# Altium footprint library Mechanical.PcbLib: 35 footprints (part 1 of 3)
Each footprint in its own frame and in the unit in brackets; x right, y up, seen from the top. Pads: shape width x height; smd on the part's side, far side on the other; paste and mask are expansions set on the pad; w line width, h text height; cw(c..) or ccw(c..) is an arc to the next point about the centre after c.
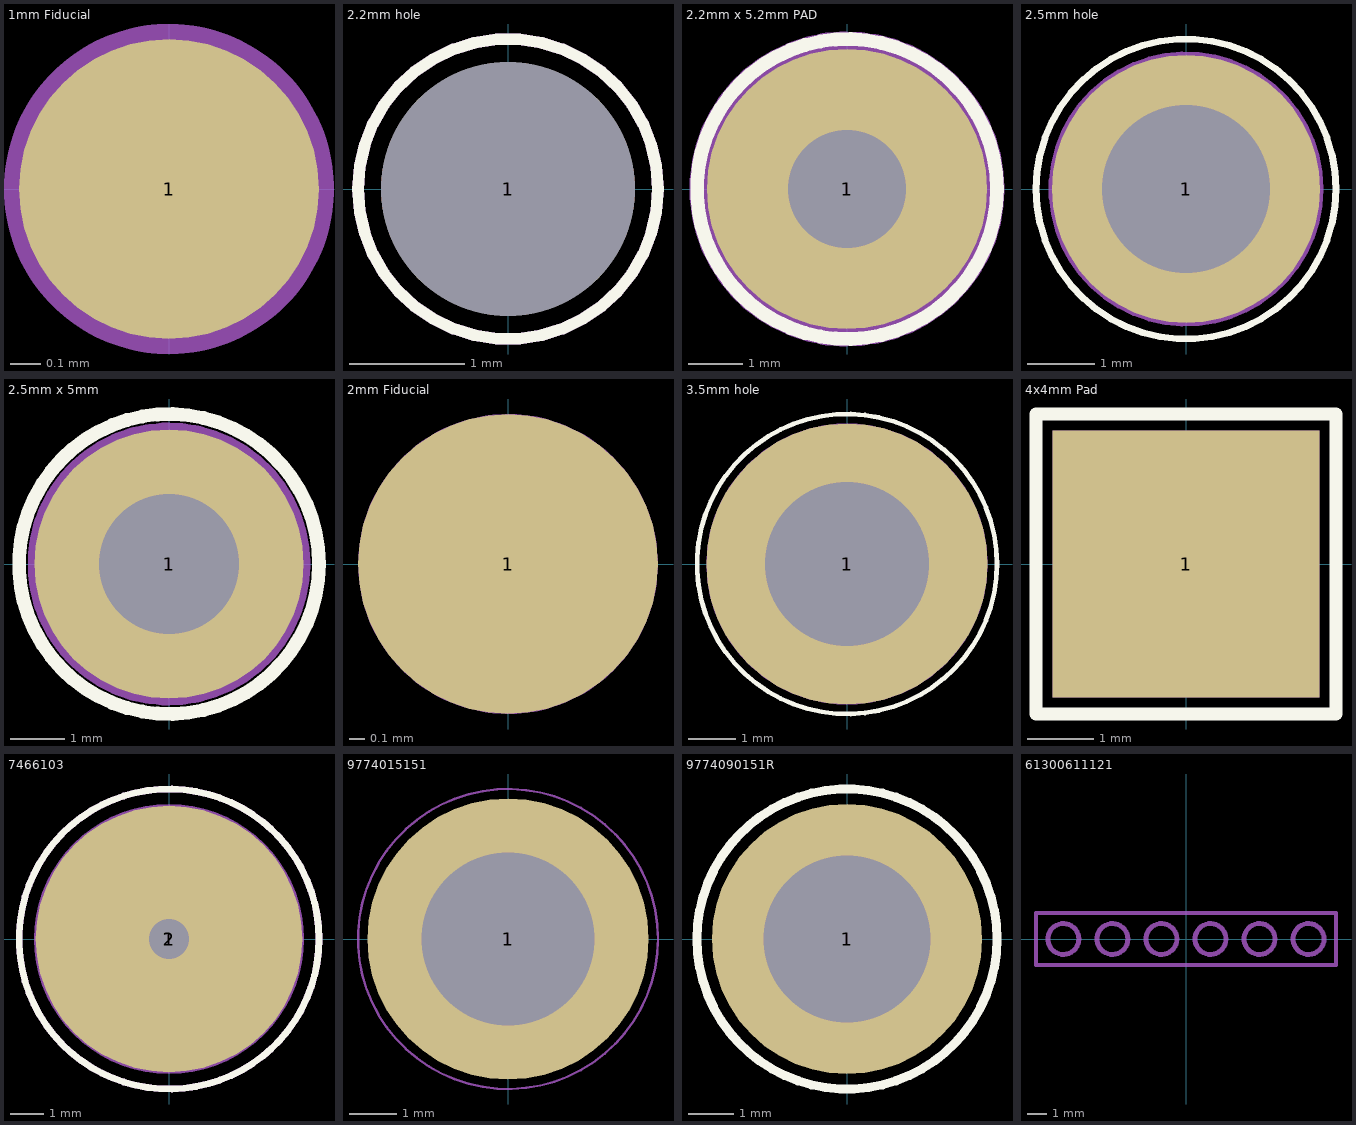
[diagram p0: the footprints below, top view; thin cyan lines are the x and y axes]

## 1mm Fiducial [mm] "1mm Fiducial"
pads (1):
  round 1 smd mask+0: 1(0,0)
Mechanical 13:
  circle w0.9: c0,0 r0.1

## 2.2mm hole [mm]
pads (1):
  round 2.2 hole 2.2 unplated mask+0: 1(0,0)
Top Overlay:
  circle w0.1: c0,0 r1.3
Mechanical 13:
  circle w0.1: c0,0 r1.3

## 2.2mm x 5.2mm PAD [mm]
pads (1):
  round 5.2 hole 2.2: 1(0,0)
Top Overlay:
  circle w0.254: c0,0 r2.785
Mechanical 13:
  circle w1.25: c0,0 r2.3
  text ".Designator" at -1.975,3.359 h1

## 2.5mm hole [mm]
pads (1):
  round 4 hole 2.5 mask+0: 1(0,0)
Top Overlay:
  circle w0.1: c0,0 r2.236
Mechanical 13:
  circle w1: c0,0 r1.5
  circle w0.1: c0,0 r2
  text ".Designator" at -1.975,2 h1

## 2.5mm x 5mm [mm]
pads (1):
  round 5 hole 2.6: 1(0,0)
Top Overlay:
  circle w0.254: c0,0 r2.785
Mechanical 13:
  circle w1.25: c0,0 r2
  text ".Designator" at -1.975,3.359 h1

## 2mm Fiducial [mm] "2mm Fiducial"
pads (1):
  round 2 smd mask+0: 1(0,0)
Mechanical 13:
  circle w1: c0,0 r0.5
  text ".Designator" at -0.975,1 h1

## 3.5mm hole [mm]
pads (1):
  round 6 hole 3.5 mask+0: 1(0,0)
Top Overlay:
  circle w0.1: c0,0 r3.2
Mechanical 13:
  circle w1.5: c0,0 r2.25
  text ".Designator" at -1.975,4 h1

## 4x4mm Pad [mm] "4x4mm Pad"
pads (1):
  rect 4x4 smd mask+0: 1(0,0)
Top Overlay:
  lines w0.2: -2.25,-2.25 2.25,-2.25 2.25,2.25 -2.25,2.25 -2.25,-2.25
Mechanical 13:
  rectangle: -2,-2 2,2
  text ".Designator" at -4.998,2.917 h1

## 125CH-B-02 [mm]
3D body "125CH-B-02.step": height 3.21, standoff 0.01, extent -1.95,-2.125 2,2.125

## 125CH-B-07 [mm]
3D body "125CH-B-07.step": height 3.21, standoff 0.01, extent -3.95,-5.25 0,5.25

## 51021-0200 [mm]
3D body "533984002 v3.step": height 5.75, standoff 1.8, extent -2.06,-1.449 2.19,1.751

## 51021-0700 [mm]
3D body "533984007 v4.step": height 5.75, standoff 1.8, extent -5.25,-1.994 5.25,1.206

## 7466103 [mm] "SMT Steel Spacer with internal Thread M2.5, height 1.5mm"
height 1.5
pads (2):
  round 8 smd: 1(0,0)
  round 1.2 hole 1.2 unplated: 2(0,0)
Top Overlay:
  circle w0.2: c0,0 r4.5
Top Paste:
  region: -2.902,0.325 -2.874,0.57 -2.738,1.044 -2.524,1.488 -2.239,1.89 -1.89,2.239 -1.488,2.524 -1.044,2.738 -0.57,2.874 -0.325,2.902 -0.325,1.872 -0.467,1.842 -0.743,1.749 -1.002,1.615 -1.237,1.443 -1.442,1.237 -1.614,1.002 -1.748,0.744 -1.842,0.468 -1.872,0.325
  region: -0.325,-2.902 -0.57,-2.874 -1.044,-2.738 -1.488,-2.524 -1.89,-2.239 -2.239,-1.89 -2.524,-1.488 -2.738,-1.044 -2.874,-0.57 -2.902,-0.325 -1.872,-0.325 -1.842,-0.467 -1.749,-0.743 -1.615,-1.002 -1.443,-1.237 -1.237,-1.442 -1.002,-1.614 -0.744,-1.748 -0.468,-1.842 -0.325,-1.872
  region: 2.902,-0.325 2.874,-0.57 2.738,-1.044 2.524,-1.488 2.239,-1.89 1.89,-2.239 1.488,-2.524 1.044,-2.738 0.57,-2.874 0.325,-2.902 0.325,-1.872 0.467,-1.842 0.743,-1.749 1.002,-1.615 1.237,-1.443 1.442,-1.237 1.614,-1.002 1.748,-0.744 1.842,-0.468 1.872,-0.325
  region: 0.325,2.902 0.57,2.874 1.044,2.738 1.488,2.524 1.89,2.239 2.239,1.89 2.524,1.488 2.738,1.044 2.874,0.57 2.902,0.325 1.872,0.325 1.842,0.467 1.749,0.743 1.615,1.002 1.443,1.237 1.237,1.442 1.002,1.614 0.744,1.748 0.468,1.842 0.325,1.872
Mechanical 13:
  circle w0.1: c0,0 r4
  circle w2.4: c0,0 r2.8
  text ".Designator" at -7.498,-5.9 h1.5
Mechanical 15:
  circle w0.2: c0,0 r4.5
  circle w0.05: c0,0 r3.2
  lines w0.05: -0.5,0 0.5,0 ; 0,-0.5 0,0.5
3D body "7466103 (rev1).stp": height 7.01, standoff -0.79, extent -3.5,-3.488 3.503,3.488

## 9774015151 [mm] "SMT Steel Spacer with internal Thread M2.5, height 1.5mm"
height 1.5
pads (1):
  round 6 / inner round 0 / far side round 0 hole 3.7 unplated: 1(0,0)
Top Paste:
  region: 0.325,2.902 0.57,2.874 1.044,2.738 1.488,2.524 1.89,2.239 2.239,1.89 2.524,1.488 2.738,1.044 2.874,0.57 2.902,0.325 1.872,0.325 1.842,0.467 1.749,0.743 1.615,1.002 1.443,1.237 1.237,1.442 1.002,1.614 0.744,1.748 0.468,1.842 0.325,1.872
  region: 2.902,-0.325 2.874,-0.57 2.738,-1.044 2.524,-1.488 2.239,-1.89 1.89,-2.239 1.488,-2.524 1.044,-2.738 0.57,-2.874 0.325,-2.902 0.325,-1.872 0.467,-1.842 0.743,-1.749 1.002,-1.615 1.237,-1.443 1.442,-1.237 1.614,-1.002 1.748,-0.744 1.842,-0.468 1.872,-0.325
  region: -0.325,-2.902 -0.57,-2.874 -1.044,-2.738 -1.488,-2.524 -1.89,-2.239 -2.239,-1.89 -2.524,-1.488 -2.738,-1.044 -2.874,-0.57 -2.902,-0.325 -1.872,-0.325 -1.842,-0.467 -1.749,-0.743 -1.615,-1.002 -1.443,-1.237 -1.237,-1.442 -1.002,-1.614 -0.744,-1.748 -0.468,-1.842 -0.325,-1.872
  region: -2.902,0.325 -2.874,0.57 -2.738,1.044 -2.524,1.488 -2.239,1.89 -1.89,2.239 -1.488,2.524 -1.044,2.738 -0.57,2.874 -0.325,2.902 -0.325,1.872 -0.467,1.842 -0.743,1.749 -1.002,1.615 -1.237,1.443 -1.442,1.237 -1.614,1.002 -1.748,0.744 -1.842,0.468 -1.872,0.325
Mechanical 13:
  circle w0.1: c0,0 r2.55
  circle w0.1: c0,0 r2.55
  text ".Designator" at -1.75,-0.75 h1.5
Mechanical 15:
  circle w0.05: c0,0 r3.2
  lines w0.05: -0.5,0 0.5,0 ; 0,-0.5 0,0.5
3D body "9774015151.stp": height 1.5, standoff -1.4, extent -2.55,-2.55 2.55,2.55

## 9774090151R [mm]
pads (1):
  round 6 / inner round 0 / far side round 0 hole 3.7 unplated: 1(0,0)
Top Overlay:
  circle w0.2: c0,0 r3.329
Top Paste:
  region: -2.902,0.325 -2.874,0.57 -2.738,1.044 -2.524,1.488 -2.239,1.89 -1.89,2.239 -1.488,2.524 -1.044,2.738 -0.57,2.874 -0.325,2.902 -0.325,1.872 -0.467,1.842 -0.743,1.749 -1.002,1.615 -1.237,1.443 -1.442,1.237 -1.614,1.002 -1.748,0.744 -1.842,0.468 -1.872,0.325
  region: -0.325,-2.902 -0.57,-2.874 -1.044,-2.738 -1.488,-2.524 -1.89,-2.239 -2.239,-1.89 -2.524,-1.488 -2.738,-1.044 -2.874,-0.57 -2.902,-0.325 -1.872,-0.325 -1.842,-0.467 -1.749,-0.743 -1.615,-1.002 -1.443,-1.237 -1.237,-1.442 -1.002,-1.614 -0.744,-1.748 -0.468,-1.842 -0.325,-1.872
  region: 2.902,-0.325 2.874,-0.57 2.738,-1.044 2.524,-1.488 2.239,-1.89 1.89,-2.239 1.488,-2.524 1.044,-2.738 0.57,-2.874 0.325,-2.902 0.325,-1.872 0.467,-1.842 0.743,-1.749 1.002,-1.615 1.237,-1.443 1.442,-1.237 1.614,-1.002 1.748,-0.744 1.842,-0.468 1.872,-0.325
  region: 0.325,2.902 0.57,2.874 1.044,2.738 1.488,2.524 1.89,2.239 2.239,1.89 2.524,1.488 2.738,1.044 2.874,0.57 2.902,0.325 1.872,0.325 1.842,0.467 1.749,0.743 1.615,1.002 1.443,1.237 1.237,1.442 1.002,1.614 0.744,1.748 0.468,1.842 0.325,1.872
Mechanical 13:
  circle w0.1: c0,0 r2.55
  circle w0.1: c0,0 r2.55
  text ".Designator" at -7.498,-0.5 h1.5
Mechanical 15:
  lines w0.05: -0.5,0 0.5,0 ; 0,-0.5 0,0.5
3D body "9774090151 (rev1).stp": height 9, standoff -1.4, extent -2.55,-2.55 2.55,2.55

## 61300611121 [mm] "Pin Header, pitch 2.54 mm, THT, Vertical, single row, 6p"
height 8.54
Mechanical 13:
  circle w0.254: c-6.35,0 r0.8
  circle w0.254: c6.35,0 r0.8
  circle w0.254: c3.81,0 r0.8
  circle w0.254: c1.27,0 r0.8
  circle w0.254: c-1.27,0 r0.8
  circle w0.254: c-3.81,0 r0.8
  lines w0.2: -7.77,-1.345 7.77,-1.345 7.77,1.345 -7.77,1.345 -7.77,-1.345
3D body "61300611121.stp": height 14.05, standoff 2.51, extent -7.62,-1.27 7.62,1.27